# EAGLE library part MAGDEVICE (library Modulo)
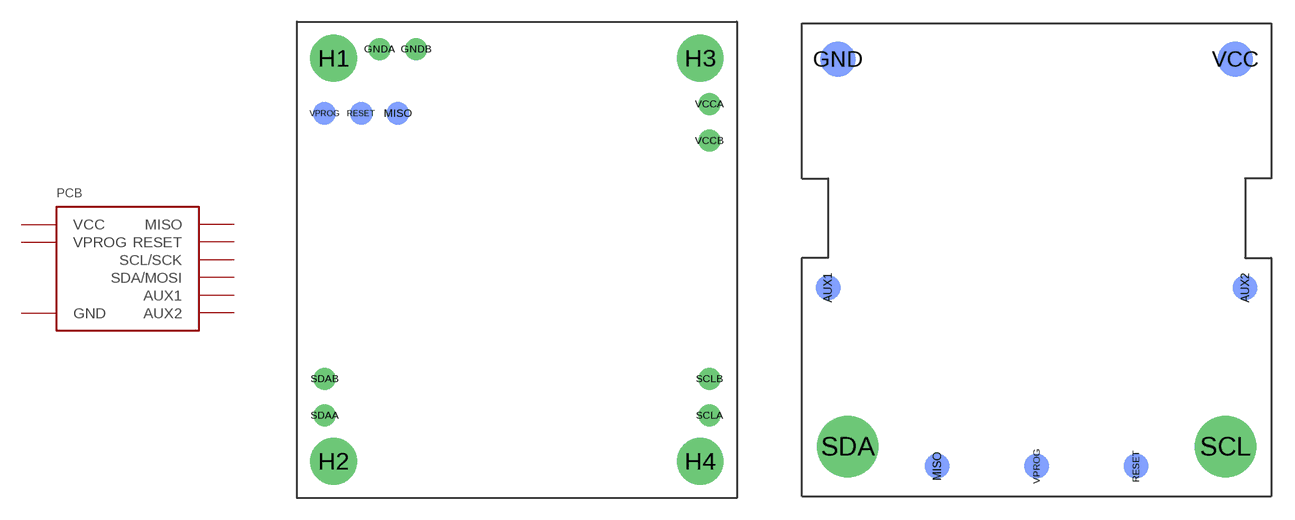
[diagram p9: symbol with the pads of MAGDEVICE; footprints MAGDEVICE, MAGDEVICE-V2]

Designator prefix PCB

## MAGDEVICE  [MAGDEVICE]
GNDA  GND
GNDB  GND
MISO  MISO
RESET  RESET
SCLA  SCL/SCK
SCLB  SCL/SCK
SDAA  SDA/MOSI
SDAB  SDA/MOSI
VCCA  VCC
VCCB  VCC
VPROG  VPROG

## MAGDEVICE-V2  [MAGDEVICE-V2]
AUX1  AUX1
AUX2  AUX2
GND  GND
MISO  MISO
RESET  RESET
SCL  SCL/SCK
SDA  SDA/MOSI
VCC  VCC
VPROG  VPROG

## MAGDEVICE-V2-OLED  [MAGDEVICE-V2-OLED]
Pads as for MAGDEVICE-V2

## MAGDEVICE-V2-DOUBLE  [MAGDEVICE-V2-DOUBLE]
Pads as for MAGDEVICE-V2

## Footprint MAGDEVICE (pad centres in mm)
drill 1.016: GNDA 5.715,31.115; GNDB 8.255,31.115; SCLA 28.575,5.715; SCLB 28.575,8.255; SDAA 1.905,5.715; SDAB 1.905,8.255; VCCA 28.575,27.305; VCCB 28.575,24.765
drill 2.223: H1 2.54,30.48; H2 2.54,2.54; H3 27.94,30.48; H4 27.94,2.54
smd 1.587 x 1.587 bottom: MISO 6.985,26.67; RESET 4.445,26.67; VPROG 1.905,26.67

## Footprint MAGDEVICE-V2 (pad centres in mm)
smd 1.587 x 1.587 bottom: AUX1 1.905,13.335; AUX2 28.575,13.335; MISO 8.89,1.905; RESET 21.59,1.905; VPROG 15.24,1.905
smd 2.286 x 2.286 bottom: GND 2.54,27.94; VCC 27.94,27.94
drill 2.921: SCL 27.305,3.175; SDA 3.175,3.175

## Footprint MAGDEVICE-V2-OLED (pad centres in mm)
smd 1.587 x 1.587 bottom: AUX1 1.905,13.335; AUX2 28.575,13.335; MISO 8.89,1.905; RESET 21.59,1.905; VPROG 15.24,1.905
smd 2.286 x 2.286 bottom: GND 2.54,27.94; VCC 27.94,27.94
drill 2.921: SCL 27.305,3.175; SDA 3.175,3.175

## Footprint MAGDEVICE-V2-DOUBLE (pad centres in mm)
smd 1.587 x 1.587 bottom: AUX1 1.905,13.335; AUX2 28.575,13.335; MISO 8.89,1.905; RESET 21.59,1.905; VPROG 15.24,1.905
smd 2.286 x 2.286 bottom: GND 2.54,27.94; VCC 58.42,27.94
drill 2.921: SCL 57.785,3.175; SDA 3.175,3.175